# EAGLE library part FM24CXX (library JLB6_Processor)
FM24C64, 256, 01 Fram I2C
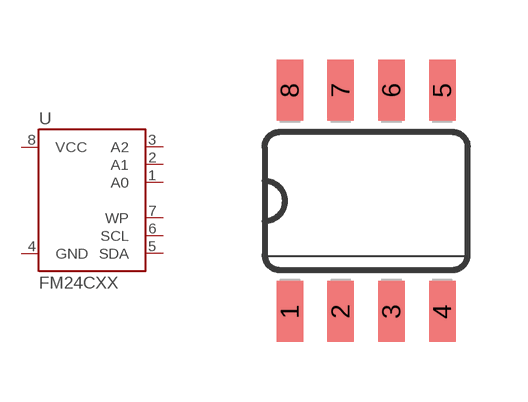
[diagram p31: symbol with the pads of SO08; footprint SO08]

Designator prefix -

## FM24CXX  [SO08]
1  A0  in
2  A1  in
3  A2  in
4  GND  pwr
5  SDA
6  SCL
7  WP  in
8  VCC  pwr

## Footprint SO08 (pad centres in mm)
Small Outline Package
smd 0.66 x 1.524: 1 -1.905,-2.769; 2 -0.635,-2.769; 3 0.635,-2.769; 4 1.905,-2.769; 5 1.905,2.769; 6 0.635,2.769; 7 -0.635,2.769; 8 -1.905,2.769